# Altium footprint library 623 3xx 235 521.PcbLib: 3 footprints
Each footprint in its own frame and in the unit in brackets; x right, y up, seen from the top. Pads: shape width x height; smd on the part's side, far side on the other; paste and mask are expansions set on the pad; w line width, h text height; cw(c..) or ccw(c..) is an arc to the next point about the centre after c.
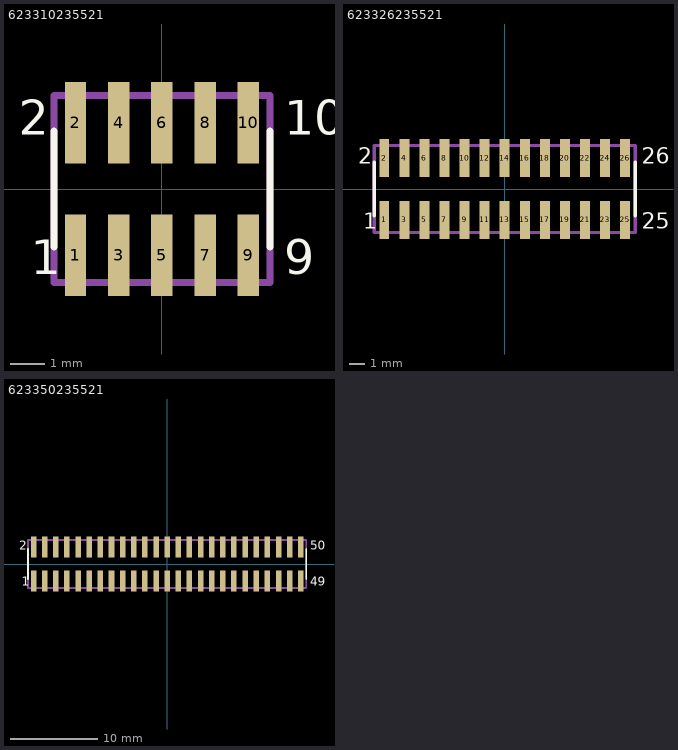
[diagram p0: the footprints below, top view; thin cyan lines are the x and y axes]

## 623310235521 [mm] "1.27 mm SMT Dual Pin Header, H=1.80mm, 10p"
height 6
pads (10):
  rect 0.63x2.4 smd: 1(-2.54,-1.95) 2(-2.54,1.95) 3(-1.27,-1.95) 4(-1.27,1.95) 5(0,-1.95) 6(0,1.95) 7(1.27,-1.95) 8(1.27,1.95) 9(2.54,-1.95) 10(2.54,1.95)
Top Overlay:
  lines w0.2: -3.175,-1.7 -3.175,1.7 ; 3.175,-1.7 3.175,1.7
  text "1" at -3.861,-2.5 h1.02
  text "2" at -4.2,1.6 h1.02
  text "9" at 3.6,-2.5 h1.02
  text "10" at 3.6,1.6 h1.02
Mechanical 13:
  lines w0.2: -3.175,-2.75 -3.175,2.75 3.175,2.75 3.175,-2.75 -3.175,-2.75
3D body "623310235521.stp": height 6, standoff 0, extent -3.175,-2.75 3.175,2.75

## 623326235521 [mm] "1.27 mm SMT Dual Pin Header, H=1.80mm, 26p"
height 6
pads (26):
  rect 0.63x2.4 smd: 1(-7.62,-1.95) 2(-7.62,1.95) 3(-6.35,-1.95) 4(-6.35,1.95) 5(-5.08,-1.95) 6(-5.08,1.95) 7(-3.81,-1.95) 8(-3.81,1.95) 9(-2.54,-1.95) 10(-2.54,1.95) 11(-1.27,-1.95) 12(-1.27,1.95) 13(0,-1.95) 14(0,1.95) 15(1.27,-1.95) 16(1.27,1.95) 17(2.54,-1.95) 18(2.54,1.95) 19(3.81,-1.95) 20(3.81,1.95) 21(5.08,-1.95) 22(5.08,1.95) 23(6.35,-1.95) 24(6.35,1.95) 25(7.62,-1.95) 26(7.62,1.95)
Top Overlay:
  lines w0.2: -8.255,-1.7 -8.255,1.7 ; 8.255,-1.7 8.255,1.7
  text "26" at 8.68,1.6 h1.02
  text "25" at 8.68,-2.5 h1.02
  text "1" at -8.941,-2.5 h1.02
  text "2" at -9.28,1.6 h1.02
Mechanical 13:
  lines w0.2: -8.255,-2.75 -8.255,2.75 8.255,2.75 8.255,-2.75 -8.255,-2.75
3D body "623326235521.stp": height 6, standoff 0, extent -8.255,-2.75 8.255,2.75

## 623350235521 [mm] "1.27 mm SMT Dual Pin Header, H=1.80mm, 50p"
height 6
pads (50):
  rect 0.63x2.4 smd: 1(-15.24,-1.95) 2(-15.24,1.95) 3(-13.97,-1.95) 4(-13.97,1.95) 5(-12.7,-1.95) 6(-12.7,1.95) 7(-11.43,-1.95) 8(-11.43,1.95) 9(-10.16,-1.95) 10(-10.16,1.95) 11(-8.89,-1.95) 12(-8.89,1.95) 13(-7.62,-1.95) 14(-7.62,1.95) 15(-6.35,-1.95) 16(-6.35,1.95) 17(-5.08,-1.95) 18(-5.08,1.95) 19(-3.81,-1.95) 20(-3.81,1.95) 21(-2.54,-1.95) 22(-2.54,1.95) 23(-1.27,-1.95) 24(-1.27,1.95) 25(0,-1.95) 26(0,1.95) 27(1.27,-1.95) 28(1.27,1.95) 29(2.54,-1.95) 30(2.54,1.95) 31(3.81,-1.95) 32(3.81,1.95) 33(5.08,-1.95) 34(5.08,1.95) 35(6.35,-1.95) 36(6.35,1.95) 37(7.62,-1.95) 38(7.62,1.95) 39(8.89,-1.95) 40(8.89,1.95) 41(10.16,-1.95) 42(10.16,1.95) 43(11.43,-1.95) 44(11.43,1.95) 45(12.7,-1.95) 46(12.7,1.95) 47(13.97,-1.95) 48(13.97,1.95) 49(15.24,-1.95) 50(15.24,1.95)
Top Overlay:
  lines w0.2: -15.875,-1.7 -15.875,1.7 ; 15.875,-1.7 15.875,1.7
  text "50" at 16.3,1.6 h1.02
  text "49" at 16.3,-2.5 h1.02
  text "1" at -16.561,-2.5 h1.02
  text "2" at -16.9,1.6 h1.02
Mechanical 13:
  lines w0.2: -15.875,-2.75 -15.875,2.75 15.875,2.75 15.875,-2.75 -15.875,-2.75
3D body "623350235521.stp": height 6, standoff 0, extent -15.875,-2.75 15.875,2.75